# EAGLE library part JST_SH_12 (library ___connector)
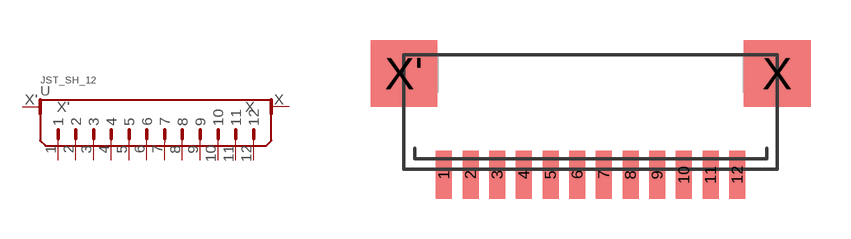
[diagram p3: symbol with the pads of JST_SH_12; footprint JST_SH_12]

Designator prefix -

## JST_SH_12  [JST_SH_12]
1  1
2  2
3  3
4  4
5  5
6  6
7  7
8  8
9  9
10  10
11  11
12  12
X  X
X'  X'

## Footprint JST_SH_12 (pad centres in mm)
smd 0.6 x 1.8: 1 -5.23,-3.47; 2 -4.23,-3.47; 3 -3.23,-3.47; 4 -2.23,-3.47; 5 -1.23,-3.47; 6 -0.23,-3.47; 7 0.77,-3.47; 8 1.77,-3.47; 9 2.77,-3.47; 10 3.77,-3.47; 11 4.77,-3.47; 12 5.77,-3.47
smd 2.5 x 2.5: X 7.27,0.33; X' -6.73,0.33